# Altium footprint library Mechanical.PcbLib: 24 footprints (part 2 of 2)
Each footprint in its own frame and in the unit in brackets; x right, y up, seen from the top. Pads: shape width x height; smd on the part's side, far side on the other; paste and mask are expansions set on the pad; w line width, h text height; cw(c..) or ccw(c..) is an arc to the next point about the centre after c.
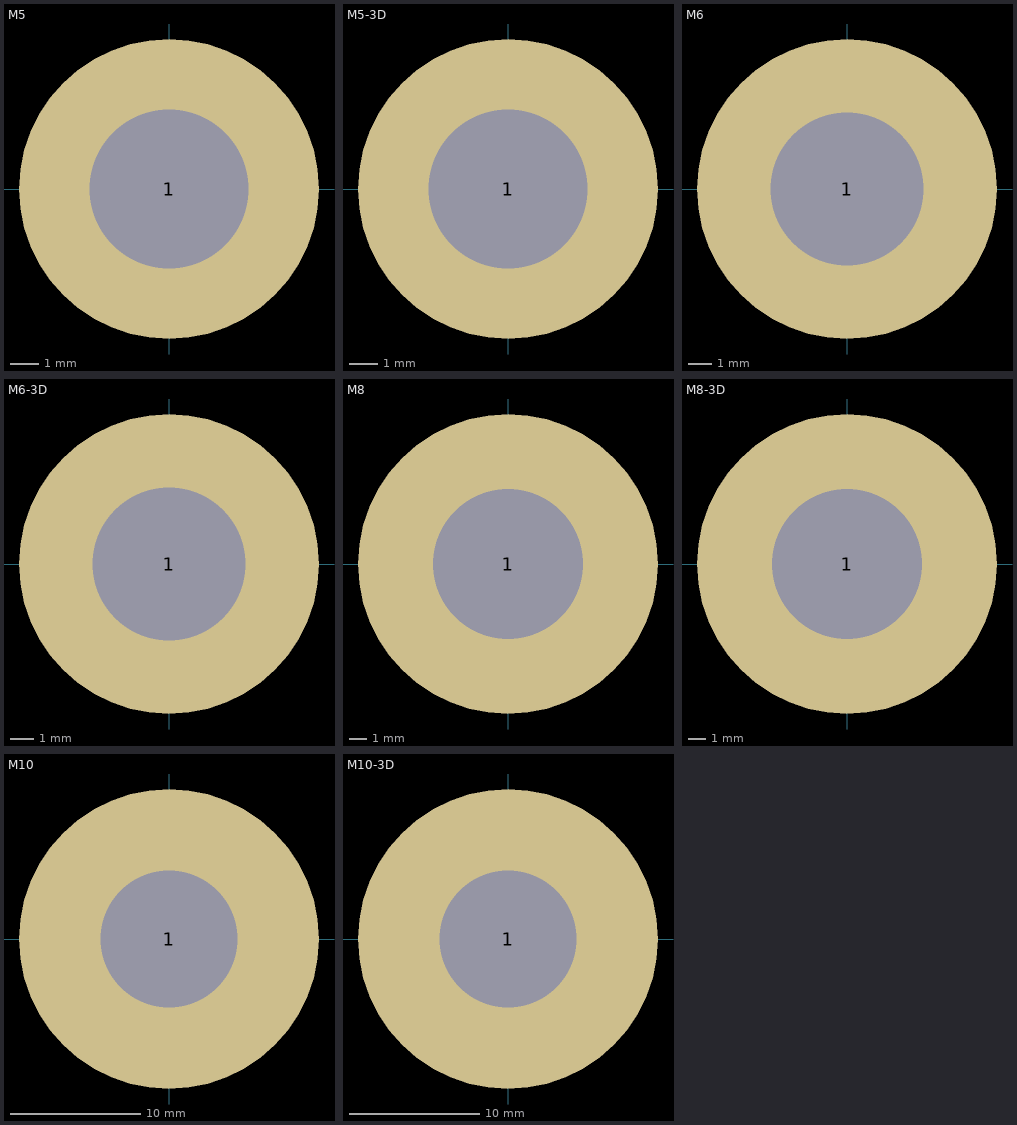
[diagram p1: the footprints below, top view; thin cyan lines are the x and y axes]

## M5 [mm]
pads (1):
  round 10.5 hole 5.55: 1(0,0)

## M5-3D [mm]
pads (1):
  round 10.5 hole 5.55: 1(0,0)
3D body "Screw M5.step": height 9.5, standoff -7.5, extent -4.002,-4.5 4.002,4.706
3D body "Nut M5.step": height 4, standoff 0, extent -4.002,-4.603 4.002,4.603

## M6 [mm]
pads (1):
  round 13 hole 6.65: 1(0,0)

## M6-3D [mm]
pads (1):
  round 13 hole 6.65: 1(0,0)
3D body "Nut M6.step": height 4, standoff 0, extent -5,-5.757 5,5.757
3D body "Screw M6.step": height 9.5, standoff -7.5, extent -5,-5.757 5,5.757

## M8 [mm]
pads (1):
  round 17 hole 8.5: 1(0,0)

## M8-3D [mm]
pads (1):
  round 17 hole 8.5: 1(0,0)
3D body "Screw M8.step": height 9.5, standoff -7.5, extent -6.512,-7.49 6.512,7.49
3D body "Nut M8.step": height 4, standoff 0, extent -6.512,-7.49 6.512,7.49

## M10 [mm]
pads (1):
  round 23 hole 10.5: 1(0,0)

## M10-3D [mm]
pads (1):
  round 23 hole 10.5: 1(0,0)
3D body "Nut M10.step": height 4, standoff 0, extent -8.5,-9.799 8.5,9.799
3D body "Screw M10.step": height 9.5, standoff -7.5, extent -8.5,-9.799 8.5,9.799